# EAGLE library part IMU3000-BOB (library aq_pcb_v2)
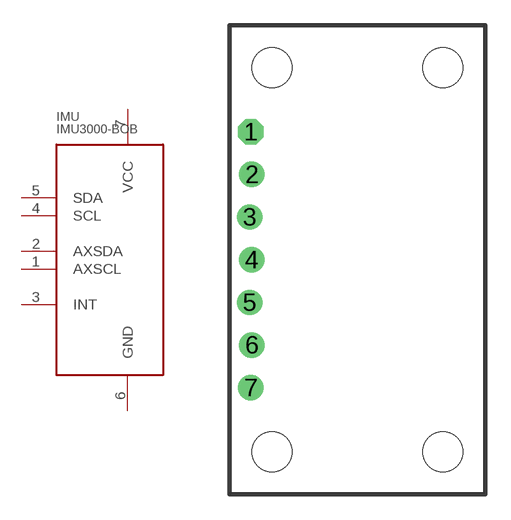
[diagram p4: symbol with the pads of IMU3000-BOB; footprint IMU3000-BOB]

Designator prefix IMU

## IMU3000-BOB  [IMU3000-BOB]
1  AXSCL
2  AXSDA
3  INT  out
4  SCL
5  SDA
6  GND  pwr
7  VCC  pwr

## Footprint IMU3000-BOB (pad centres in mm)
drill 1 octagon: 1 0,7.62
drill 1 round: 2 0.064,5.08; 3 -0.064,2.54; 4 0.064,0; 5 -0.064,-2.54; 6 0.064,-5.08; 7 0,-7.62
hole 2.381 at 1.27,-11.43
hole 2.381 at 1.27,11.43
hole 2.381 at 11.43,11.43
hole 2.381 at 11.43,-11.43